# EAGLE library part RJ45 (library common)
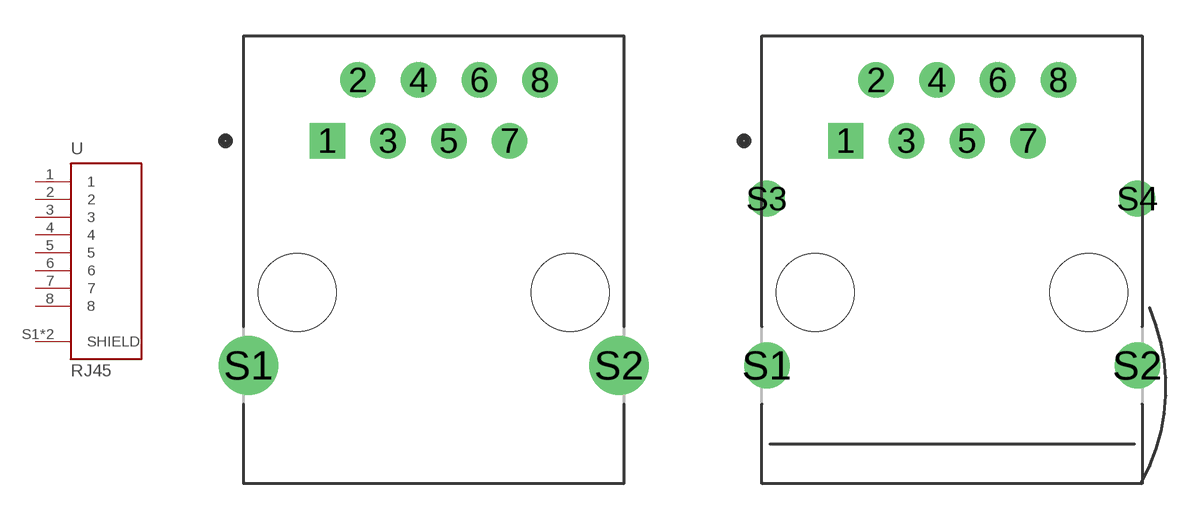
[diagram p14: symbol with the pads of RJ45-STEWARTCON(H)_SS-700810S-A-NF-1-BB; footprints RJ45-STEWARTCON(H)_SS-700810S-A-NF-1-BB, RJ45-UNI]

Designator prefix -

## RJ45-H-STEWARTCON  [RJ45-STEWARTCON(H)_SS-700810S-A-NF-1-BB]
1  1  pas
2  2  pas
3  3  pas
4  4  pas
5  5  pas
6  6  pas
7  7  pas
8  8  pas
S1  SHIELD  pas
S2  SHIELD  pas

## RJ45-UNIVERSAL  [RJ45-UNI]
1  1  pas
2  2  pas
3  3  pas
4  4  pas
5  5  pas
6  6  pas
7  7  pas
8  8  pas
S1  SHIELD  pas
S2  SHIELD  pas
S3  SHIELD  pas
S4  SHIELD  pas

## RJ45-V-TYCO  [RJ45-TYCO(V)-112679-1]
1  1  pas
2  2  pas
3  3  pas
4  4  pas
5  5  pas
6  6  pas
7  7  pas
8  8  pas
S3  SHIELD  pas
S4  SHIELD  pas

## Footprint RJ45-STEWARTCON(H)_SS-700810S-A-NF-1-BB (pad centres in mm)
drill 0.97 square: 1 -4.445,6.35
drill 0.97: 2 -3.175,8.89; 3 -1.905,6.35; 4 -0.635,8.89; 5 0.635,6.35; 6 1.905,8.89; 7 3.175,6.35; 8 4.445,8.89
drill 1.65: S1 -7.745,-3.05; S2 7.745,-3.05
hole 3.25 at -5.715,0
hole 3.25 at 5.715,0

## Footprint RJ45-UNI (pad centres in mm)
drill 0.97 square: 1 -4.445,6.35
drill 0.97: 2 -3.175,8.89; 3 -1.905,6.35; 4 -0.635,8.89; 5 0.635,6.35; 6 1.905,8.89; 7 3.175,6.35; 8 4.445,8.89
drill 1.27: S1 -7.745,-3.05; S2 7.745,-3.05
drill 1: S3 -7.745,3.935; S4 7.745,3.935
hole 3.25 at -5.715,0
hole 3.25 at 5.715,0

## Footprint RJ45-TYCO(V)-112679-1 (pad centres in mm)
drill 0.97 square: 1 -4.445,6.35
drill 0.97: 2 -3.175,8.89; 3 -1.905,6.35; 4 -0.635,8.89; 5 0.635,6.35; 6 1.905,8.89; 7 3.175,6.35; 8 4.445,8.89
drill 1: S3 -7.745,3.935; S4 7.745,3.935
hole 3.25 at -5.715,0
hole 3.25 at 5.715,0